# Altium footprint library CAP-MKT-15mm.PcbLib: 1 footprints
Each footprint in its own frame and in the unit in brackets; x right, y up, seen from the top. Pads: shape width x height; smd on the part's side, far side on the other; paste and mask are expansions set on the pad; w line width, h text height; cw(c..) or ccw(c..) is an arc to the next point about the centre after c.
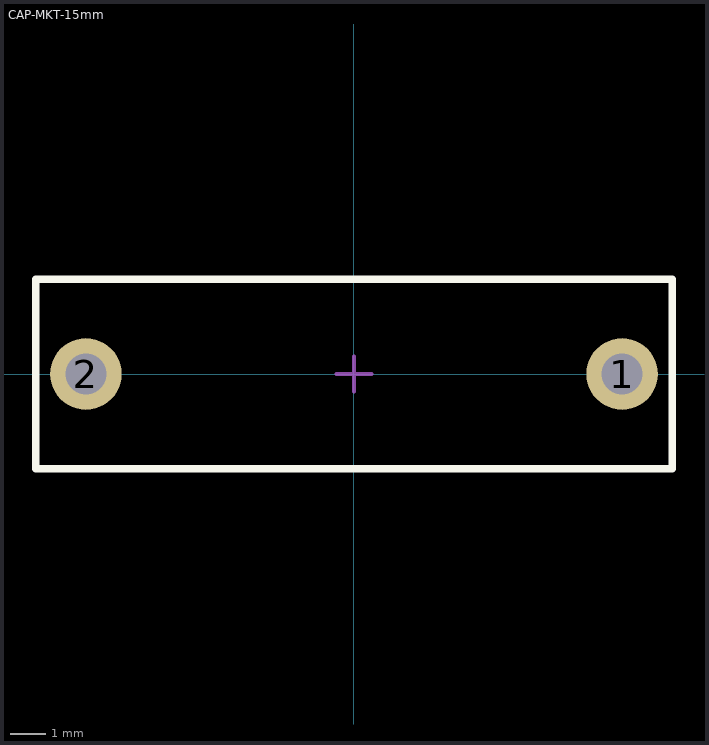
[diagram p0: the footprint, top view; thin cyan lines are the x and y axes]

## CAP-MKT-15mm [mm]
pads (2):
  round 2 hole 1.15: 1(7.501,0.007) 2(-7.499,0.007)
Top Overlay:
  lines w0.2: -8.899,-2.643 -8.899,2.657 8.901,2.657 8.901,-2.643 -8.899,-2.643
Mechanical 8:
  lines w0.1: -7.999,0.007 -7.499,0.007 ; -7.499,-0.493 -7.499,0.007 ; -7.499,0.507 -7.499,0.007 ; -6.999,0.007 -7.499,0.007 ; -0.499,0.007 0.001,0.007 ; 0.001,-0.493 0.001,0.007 ; 0.001,0.507 0.001,0.007 ; 0.501,0.007 0.001,0.007 ; 7.001,0.007 7.501,0.007 ; 7.501,-0.493 7.501,0.007 ; 7.501,0.507 7.501,0.007 ; 8.001,0.007 7.501,0.007
Mechanical 14:
  lines w0.1: -8.899,-2.643 8.901,-2.643 8.901,2.657 -8.899,2.657 -8.899,-2.643
3D body "CAPR1500-530X1780X1330.stp": height 13.3, standoff -3.2, extent -8.899,-2.643 8.901,2.657